# Altium footprint library GPS.PcbLib: 1 footprints
Each footprint in its own frame and in the unit in brackets; x right, y up, seen from the top. Pads: shape width x height; smd on the part's side, far side on the other; paste and mask are expansions set on the pad; w line width, h text height; cw(c..) or ccw(c..) is an arc to the next point about the centre after c.
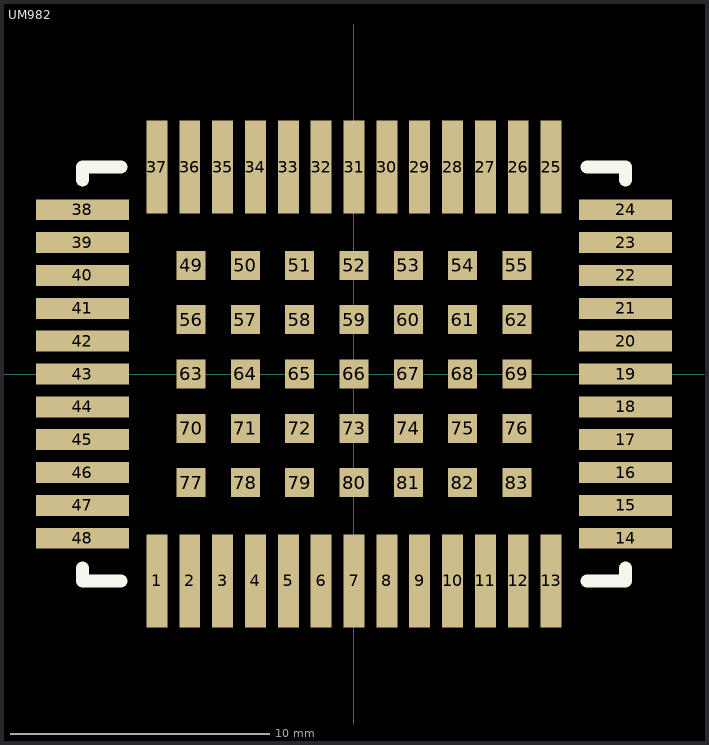
[diagram p0: the footprint, top view; thin cyan lines are the x and y axes]

## UM982 [mm] "Dual channel gps"
pads (83):
  rect 0.81x3.6 smd paste-1.016 mask+0.102: 1(-7.62,-8) 2(-6.35,-8) 3(-5.08,-8) 4(-3.81,-8) 5(-2.54,-8) 6(-1.27,-8) 7(0,-8) 8(1.27,-8) 9(2.54,-8) 10(3.81,-8) 11(5.08,-8) 12(6.35,-8) 13(7.62,-8) 25(7.62,8) 26(6.35,8) 27(5.08,8) 28(3.81,8) 29(2.54,8) 30(1.27,8) 31(0,8) 32(-1.27,8) 33(-2.54,8) 34(-3.81,8) 35(-5.08,8) 36(-6.35,8) 37(-7.62,8)
  rect 3.6x0.81 smd paste-1.016 mask+0.102: 14(10.5,-6.35) 15(10.5,-5.08) 16(10.5,-3.81) 17(10.5,-2.54) 18(10.5,-1.27) 19(10.5,0) 20(10.5,1.27) 21(10.5,2.54) 22(10.5,3.81) 23(10.5,5.08) 24(10.5,6.35) 38(-10.5,6.35) 39(-10.5,5.08) 40(-10.5,3.81) 41(-10.5,2.54) 42(-10.5,1.27) 43(-10.5,0) 44(-10.5,-1.27) 45(-10.5,-2.54) 46(-10.5,-3.81) 47(-10.5,-5.08) 48(-10.5,-6.35)
  rect 1.12x1.12 smd paste-1.016 mask+0.102: 49(-6.3,4.2) 50(-4.2,4.2) 51(-2.1,4.2) 52(0,4.2) 53(2.1,4.2) 54(4.2,4.2) 55(6.3,4.2) 56(-6.3,2.1) 57(-4.2,2.1) 58(-2.1,2.1) 59(0,2.1) 60(2.1,2.1) 61(4.2,2.1) 62(6.3,2.1) 63(-6.3,0) 64(-4.2,0) 65(-2.1,0) 66(0,0) 67(2.1,0) 68(4.2,0) 69(6.3,0) 70(-6.3,-2.1) 71(-4.2,-2.1) 72(-2.1,-2.1) 73(0,-2.1) 74(2.1,-2.1) 75(4.2,-2.1) 76(6.3,-2.1) 77(-6.3,-4.2) 78(-4.2,-4.2) 79(-2.1,-4.2) 80(0,-4.2) 81(2.1,-4.2) 82(4.2,-4.2) 83(6.3,-4.2)
Top Overlay:
  lines w0.5: -10.5,-7.5 -10.5,-8 -9,-8 ; -10.5,7.5 -10.5,8 -9,8 ; 9,-8 10.5,-8 10.5,-7.5 ; 9,8 10.5,8 10.5,7.5